# EAGLE library part WE-MCA_7488920245 (library WE-MCA)
WE-MCA Antennas Characteristics SMT multilayer chip antenna Extremely low profile Omni-directional radiation pattern Excellent size to performance ratio Smallest form factor in the industry Less ground clearance Operating temperature: -40 °C to +85°C Applications me RF/Smart home GSM 900 WLAN/WiFi Bluetooth GPS/GNSS ZigBee Cellular Communication, 4G/LTE <https://www.we-online.com/katalog/media/o14819v209%20Family_WE-MCA.jpg> Details see: www.we-online.com/katalog/WE-MCA <www.we-online.com/catalog/WE-MCA/?utm_source=eagle_model&utm_medium=description_link&utm_campaign=eisos_eagle> Updated by Ella Wu 2019-08-16 2019 (C) Wurth Elektronik
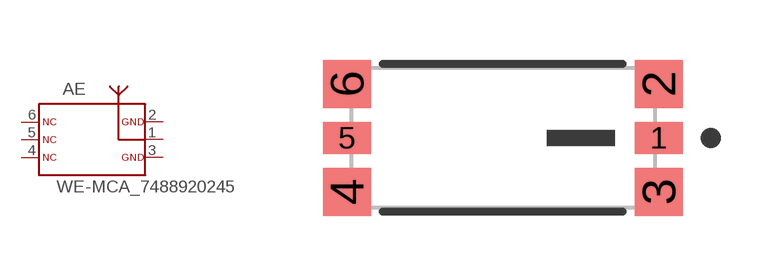
[diagram p1: symbol with the pads of WE-MCA_7488920245; footprint WE-MCA_7488920245]

Designator prefix AE

## WE-MCA_7488920245 (DATASHEET-URL: https://www.we-online.com/redexpert/spec/7488920245?ae; GPEAK: 1.3dBi; IMPEDANCE: 50ohm; MOUNT: SMT; PART-NUMBER: 7488920245; SIZE: 7.6 x 3.5 mm; VALUE: 2400-2500 MHz; VSWR: 2)  [WE-MCA_7488920245]
1  FP  pas
2  GND1  pas
3  GND2  pas
4  NC3  pas
5  NC2  pas
6  NC1  pas

## Footprint WE-MCA_7488920245 (pad centres in mm)
WE-MCA Antennas Single band
smd 1.2 x 0.8: 1 3.9,0; 5 -3.9,0
smd 1.2 x 1.2: 2 3.9,1.35; 3 3.9,-1.35; 4 -3.9,-1.35; 6 -3.9,1.35